# Altium footprint library BLDC-2020.PcbLib: 55 footprints (part 2 of 4)
Each footprint in its own frame and in the unit in brackets; x right, y up, seen from the top. Pads: shape width x height; smd on the part's side, far side on the other; paste and mask are expansions set on the pad; w line width, h text height; cw(c..) or ccw(c..) is an arc to the next point about the centre after c.
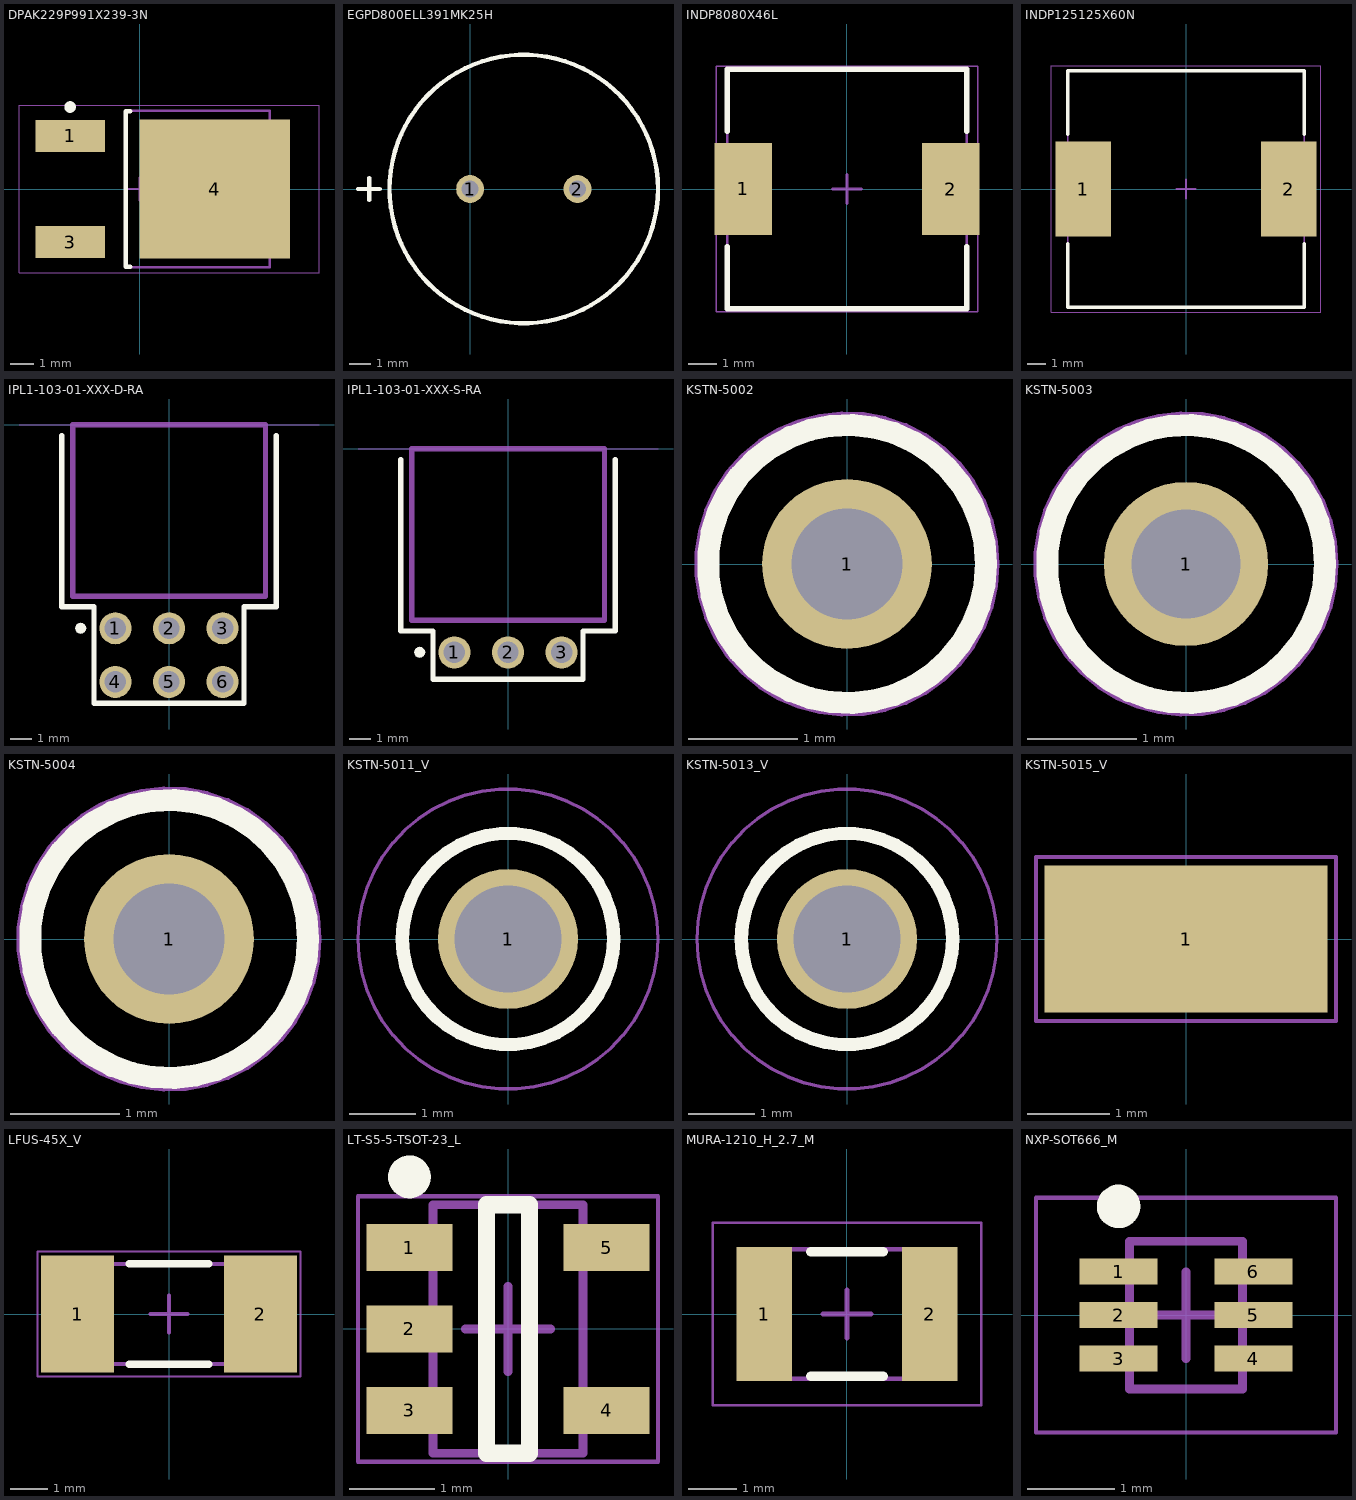
[diagram p1: the footprints below, top view; thin cyan lines are the x and y axes]

## DPAK229P991X239-3N [mm]
pads (3):
  rect 3x1.4 smd: 1(-3,2.29) 3(-3,-2.29)
  rect 6.5x6 smd: 4(3.25,0)
Top Overlay:
  circle w0.25: c-3,3.54 r0.125
  lines w0.2: -0.4,-3.35 -0.6,-3.35 -0.6,3.35 -0.4,3.35
Mechanical 13:
  lines w0.1: -0.6,-3.375 -0.6,3.375 5.62,3.375 5.62,-3.375 -0.6,-3.375
Mechanical 15:
  lines w0.05: -5.207,-3.625 -5.207,3.625 7.747,3.625 7.747,-3.625 -5.207,-3.625
  lines w0.1: -0.5,0 0.5,0 ; 0,-0.5 0,0.5
3D body "DPAK229P991X239-3N.step": height 2.39, standoff 0, extent -2.44,-3.375 7.465,3.375

## EGPD800ELL391MK25H [mm]
pads (2):
  round 1.3 hole 0.8: 1(0,0) 2(5,0)
Top Overlay:
  circle w0.2: c2.5,0 r6.25
  lines w0.2: -5.22,0 -4.204,0 ; -4.699,-0.508 -4.699,0.508

## INDP8080X46L [mm]
pads (2):
  rect 2x3.2 smd: 1(-3.6,0) 2(3.6,0)
Top Overlay:
  lines w0.2: -4.15,-2 -4.15,-4.15 4.15,-4.15 4.15,-2 ; -4.15,2 -4.15,4.15 4.15,4.15 4.15,2
Mechanical 13:
  lines w0.1: -4.15,-4.15 4.15,-4.15 4.15,4.15 -4.15,4.15 -4.15,-4.15
Mechanical 15:
  lines w0.05: -4.525,-4.25 4.525,-4.25 4.525,4.25 -4.525,4.25 -4.525,-4.25
  lines w0.1: -0.5,0 0.5,0 ; 0,-0.5 0,0.5
3D body "INDP8080X46L.step": height 4.7, standoff 0, extent -4.1,-4 4.1,4

## INDP125125X60N [mm]
pads (2):
  rect 2.95x5 smd: 1(-5.425,0) 2(5.425,0)
Top Overlay:
  lines w0.2: -6.25,-2.9 -6.25,-6.25 6.25,-6.25 6.25,-2.9 ; -6.25,2.9 -6.25,6.25 6.25,6.25 6.25,2.9
Mechanical 13:
  lines w0.1: -6.25,-6.25 6.25,-6.25 6.25,6.25 -6.25,6.25 -6.25,-6.25
Mechanical 15:
  lines w0.05: -7.125,-6.5 7.125,-6.5 7.125,6.5 -7.125,6.5 -7.125,-6.5
  lines w0.1: -0.5,0 0.5,0 ; 0,-0.5 0,0.5
3D body "INDP125125X60N.step": height 6.1, standoff 0, extent -6.35,-6.25 6.35,6.25

## IPL1-103-01-XXX-D-RA [mil]
pads (6):
  round 60 hole 40 mask+3: 1(-100,-380) 2(0,-380) 3(100,-380) 4(-100,-480) 5(0,-480) 6(100,-480)
Top Overlay:
  region: -154.8,-380 -155.58,-376.1 -157.79,-372.79 -161.1,-370.58 -165,-369.8 -168.9,-370.58 -172.21,-372.79 -174.42,-376.1 -175.2,-380 -174.42,-383.9 -172.21,-387.21 -168.9,-389.42 -165,-390.2 -161.1,-389.42 -157.79,-387.21 -155.58,-383.9
  lines w10: -200,-20 -200,-340 -140,-340 -140,-520 140,-520 140,-340 200,-340 200,-20
Mechanical 1:
  lines w10: -180,-320 -180,0 180,0 180,-320 -180,-320
  text "J1" at -17.57,-168 h30
Mechanical 16:
  lines w0.1: -280,0 280,0
3D body "IPL1-103-01-L-D-RA-K.stp": height 310, standoff -85, extent -177.5,-492.5 182.5,0

## IPL1-103-01-XXX-S-RA [mil]
pads (3):
  round 60 hole 40 mask+3: 1(-100,-380) 2(0,-380) 3(100,-380)
Top Overlay:
  region: -154.8,-380 -155.58,-376.1 -157.79,-372.79 -161.1,-370.58 -165,-369.8 -168.9,-370.58 -172.21,-372.79 -174.42,-376.1 -175.2,-380 -174.42,-383.9 -172.21,-387.21 -168.9,-389.42 -165,-390.2 -161.1,-389.42 -157.79,-387.21 -155.58,-383.9
  lines w10: -200,-20 -200,-340 -140,-340 -140,-430 -70,-430 70,-430 140,-430 140,-340 200,-340 200,-20
Mechanical 1:
  lines w10: -180,-320 -180,0 180,0 180,-320 -180,-320
  text "J1" at -17.57,-168 h30
Mechanical 16:
  lines w0.1: -280,0 280,0
3D body "IPL1-103-01-L-S-RA-K.stp": height 260, standoff -85, extent -179.99,-397.49 180.01,-4.99

## KSTN-5002 [mm]
pads (1):
  round 1.55 hole 1.016: 1(0,0)
Top Overlay:
  circle w0.2: c0,0 r1.27
Mechanical 13:
  circle w0.1: c0,0 r1.27
Mechanical 15:
  circle w0.05: c0,0 r1.37
  lines w0.1: -0.5,0 0.5,0 ; 0,-0.5 0,0.5
3D body "Keystone_5002.stp": height 4.62, standoff -3, extent -1.254,-1.247 1.246,1.253

## KSTN-5003 [mm]
pads (1):
  round 1.5 hole 1: 1(0,0)
Top Overlay:
  circle w0.2: c0,0 r1.27
Mechanical 13:
  circle w0.1: c0,0 r1.27
Mechanical 15:
  circle w0.05: c0,0 r1.37
  lines w0.1: -0.5,0 0.5,0 ; 0,-0.5 0,0.5
3D body "User Library-Test Point Keystone - 5003 ORANGE.STEP": height 4.57, standoff -3.05, extent -1.27,-1.27 1.27,1.27

## KSTN-5004 [mm]
pads (1):
  round 1.55 hole 1.016: 1(0,0)
Top Overlay:
  circle w0.2: c0,0 r1.27
Mechanical 13:
  circle w0.1: c0,0 r1.27
Mechanical 15:
  circle w0.05: c0,0 r1.37
  lines w0.1: -0.5,0 0.5,0 -0.5,0 ; 0,-0.5 0,0.5 0,-0.5
3D body: height 4.57, standoff 0, extent -1.269,-1.269 1.269,1.269

## KSTN-5011_V [mm]
pads (1):
  round 2.1 hole 1.6: 1(0,0)
Top Overlay:
  circle w0.2: c0,0 r1.585
Mechanical 13:
  circle w0.1: c0,0 r1.585
Mechanical 15:
  circle w0.05: c0,0 r2.25
  lines w0.1: -0.5,0 0.5,0 ; 0,-0.5 0,0.5
3D body "keystone-PN5011.STEP": height 8.13, standoff -3.17, extent -1.587,-1.587 1.588,1.588

## KSTN-5013_V [mm]
pads (1):
  round 2.1 hole 1.6: 1(0,0)
Top Overlay:
  circle w0.2: c0,0 r1.585
Mechanical 13:
  circle w0.1: c0,0 r1.585
Mechanical 15:
  circle w0.05: c0,0 r2.25
  lines w0.1: -0.5,0 0.5,0 ; 0,-0.5 0,0.5
3D body "keystone-PN5013.STEP": height 8.13, standoff -3.17, extent -1.587,-1.587 1.588,1.588

## KSTN-5015_V [mm]
pads (1):
  rect 3.43x1.78 smd: 1(0,0)
Mechanical 13:
  lines w0.1: -1.315,-0.51 -1.315,0.51 1.315,0.51 1.315,-0.51 -1.315,-0.51
Mechanical 15:
  lines w0.05: -1.815,-0.99 -1.815,0.99 1.815,0.99 1.815,-0.99 -1.815,-0.99
3D body: height 1.49, standoff -0.02, extent -1.529,-0.508 1.529,0.492

## LFUS-45X_V [mm]
pads (2):
  rect 1.96x3.15 smd: 1(-2.455,0) 2(2.455,0)
Top Overlay:
  lines w0.2: -1.075,-1.345 1.075,-1.345 ; -1.075,1.345 1.075,1.345
Mechanical 13:
  lines w0.1: -3.05,-1.345 3.05,-1.345 3.05,1.345 -3.05,1.345 -3.05,-1.345
Mechanical 15:
  lines w0.05: -3.535,-1.675 -3.535,1.675 3.535,1.675 3.535,-1.675 -3.535,-1.675
  lines w0.1: -0.5,0 0.5,0 ; 0,-0.5 0,0.5
3D body: height 2.94, standoff 0, extent -3.049,-1.344 3.049,1.344

## LT-S5-5-TSOT-23_L [mm]
pads (5):
  rect 1x0.55 smd: 1(-1.15,0.95) 2(-1.15,0) 3(-1.15,-0.95) 4(1.15,-0.95) 5(1.15,0.95)
Top Overlay:
  circle w0.25: c-1.15,1.775 r0.125
  lines w0.2: -0.25,-1.45 0.25,-1.45 0.25,1.45 -0.25,1.45 -0.25,-1.45
Mechanical 13:
  lines w0.1: -0.875,-1.45 -0.875,1.45 0.875,1.45 0.875,-1.45 -0.875,-1.45
Mechanical 15:
  lines w0.05: -1.75,-1.55 -1.75,1.55 1.75,1.55 1.75,-1.55 -1.75,-1.55
  lines w0.1: -0.5,0 0.5,0 ; 0,-0.5 0,0.5
3D body: height 1, standoff 0.01, extent -0.875,-1.45 0.875,1.45

## MURA-1210_H_2.7_M [mm]
pads (2):
  rect 1.15x2.8 smd: 1(-1.725,0) 2(1.725,0)
Top Overlay:
  lines w0.2: -0.75,-1.3 0.75,-1.3 ; -0.75,1.3 0.75,1.3
Mechanical 13:
  lines w0.1: -1.75,-1.35 -1.75,1.35 1.75,1.35 1.75,-1.35 -1.75,-1.35
Mechanical 15:
  lines w0.05: -2.8,-1.9 -2.8,1.9 2.8,1.9 2.8,-1.9 -2.8,-1.9
  lines w0.1: -0.5,0 0.5,0 ; 0,-0.5 0,0.5
3D body: height 2.7, standoff 0, extent -1.45,-1.35 1.45,1.35
3D body: height 2.7, standoff 0, extent -1.75,-1.35 -1.45,1.35
3D body: height 2.7, standoff 0, extent 1.45,-1.35 1.75,1.35

## NXP-SOT666_M [mm]
pads (6):
  rect 0.9x0.3 smd: 1(-0.775,0.5) 2(-0.775,0) 3(-0.775,-0.5) 4(0.775,-0.5) 5(0.775,0) 6(0.775,0.5)
Top Overlay:
  circle w0.25: c-0.775,1.25 r0.125
Mechanical 13:
  lines w0.1: -0.65,-0.85 0.65,-0.85 0.65,0.85 -0.65,0.85 -0.65,-0.85
Mechanical 15:
  lines w0.05: -1.725,-1.35 1.725,-1.35 1.725,1.35 -1.725,1.35 -1.725,-1.35
  lines w0.1: -0.5,0 0.5,0 ; 0,-0.5 0,0.5
3D body: height 0.6, standoff 0, extent -0.65,-0.85 0.65,0.85